# EAGLE library part RELAY-2 (library SKAARHOJ)
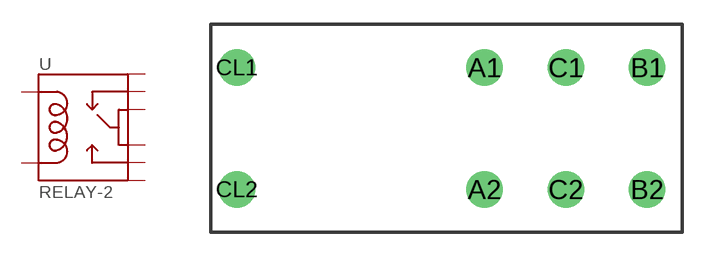
[diagram p87: symbol with the pads of RELAY-G5V; footprint RELAY-G5V]

Designator prefix -

## RELAY-2G5Q  [RELAY-G5V]
A1  A1
A2  A2
B1  B1
B2  B2
C1  C1
C2  C2
CL1  1
CL2  2

## Footprint RELAY-G5V (pad centres in mm)
G5Q SPDT Relay (SparkFun SKU: COM-00100). Footprint should also work with SPST-NO relay.
drill 1.5: A1 0,3.75; A2 0,-3.75; B1 10,3.75; B2 10,-3.75; C1 5,3.75; C2 5,-3.75; CL1 -15.24,3.75; CL2 -15.24,-3.75